# EAGLE library part SHT20 (library SamacSys_Parts)
Sensirion SHT20, Temperature & Humidity Sensor -40 +125 C +/-3 (Humidity) %RH, +/-3 (Temperature) C Source: Datasheet <https://datasheet.lcsc.com/szlcsc/Sensirion-SHT20_C53865.pdf>
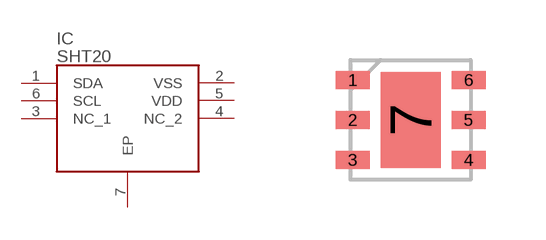
[diagram p0: symbol with the pads of SON100P300X300X110-7N; footprint SON100P300X300X110-7N]

Designator prefix IC

## SHT20 (DESCRIPTION: Sensirion SHT20, Temperature & Humidity Sensor -40 +125 C +/-3 (Humidity) %RH, +/-3 (Temperature) C; HEIGHT: 1.1mm; LCSC_PART_NUMBER: C53865; LCSC_PRICE-STOCK: https://lcsc.com/product-detail/Temperature-Humidity-Sensors_Sensirion_SHT20_Sensirion-SHT20_C53865.html; MANUFACTURER_NAME: Sensirion; MANUFACTURER_PART_NUMBER: SHT20)  [SON100P300X300X110-7N]
1  SDA
2  VSS
3  NC_1
4  NC_2
5  VDD
6  SCL
7  EP

## Footprint SON100P300X300X110-7N (pad centres in mm)
SHT20
smd 0.85 x 0.45: 1 -1.45,1; 2 -1.45,0; 3 -1.45,-1; 4 1.45,-1; 5 1.45,0; 6 1.45,1
smd 1.5 x 2.4: 7 0,0